# Altium footprint library 1210 (3225 Metric).PcbLib: 1 footprints
Each footprint in its own frame and in the unit in brackets; x right, y up, seen from the top. Pads: shape width x height; smd on the part's side, far side on the other; paste and mask are expansions set on the pad; w line width, h text height; cw(c..) or ccw(c..) is an arc to the next point about the centre after c.
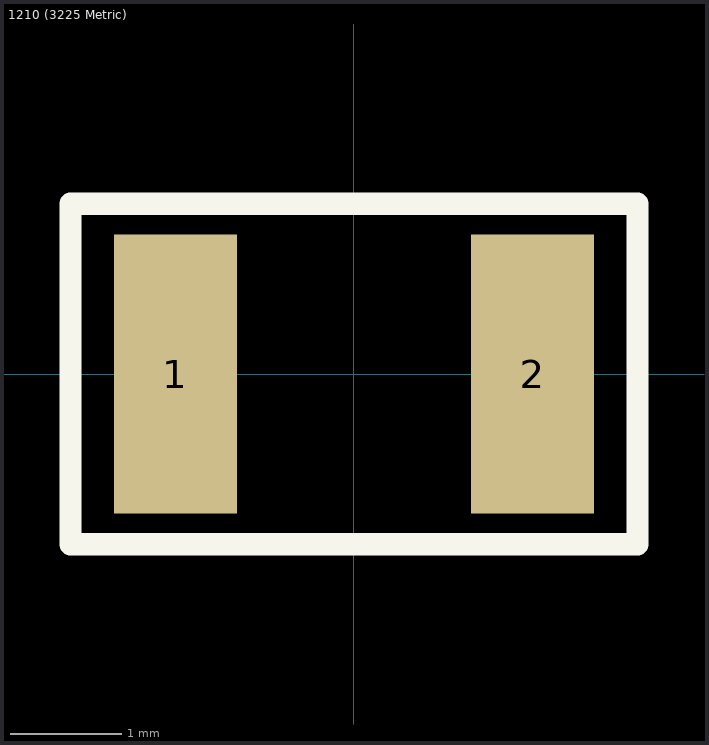
[diagram p0: the footprint, top view; thin cyan lines are the x and y axes]

## 1210 (3225 Metric) [mm]
pads (2):
  rect 1.1x2.5 smd: 1(-1.6,0) 2(1.6,0)
Top Overlay:
  lines w0.2: -2.54,-1.524 2.54,-1.524 2.54,1.524 -2.54,1.524 -2.54,-0.64 -2.54,-1.524